# EAGLE library part ISO518 (library digital)
ISO518: Octal digital coupler (Burr-Brown) Bi-directional, isolated
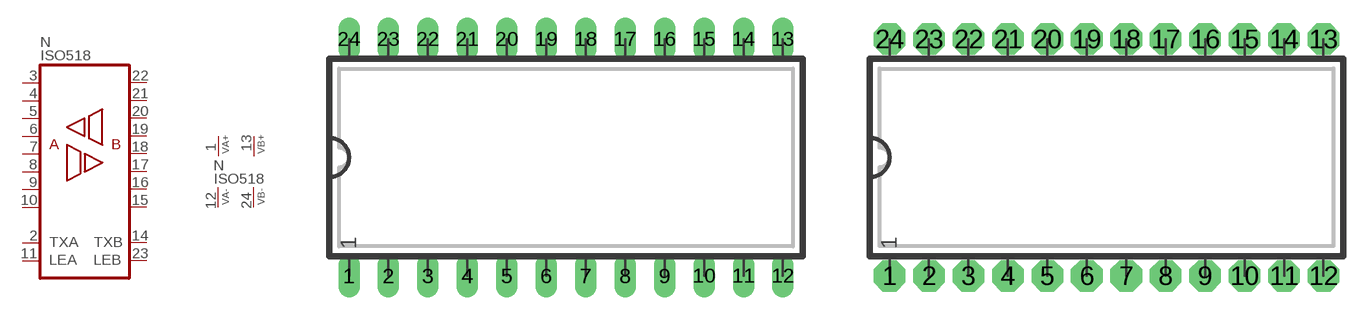
[diagram p34: symbol with the pads of DIP24WL; footprints DIP24WL, DIP24WN]

Designator prefix N; gates  =ISO518 P=V2+2-A

## ISO518  [DIP24WL]
1  P:VA+  pwr
2   :TXA  in
3   :A0
4   :A1
5   :A2
6   :A3
7   :A4
8   :A5
9   :A6
10   :A7
11   :LEA  in
12  P:VA-  pwr
13  P:VB+  pwr
14   :TXB  in
15   :B7
16   :B6
17   :B5
18   :B4
19   :B3
20   :B2
21   :B1
22   :B0
23   :LEB  in
24  P:VB-  pwr

## ISO518L  [DIP24WL]
Pads as for DIP24WL

## ISO518N  [DIP24WN]
Pads as for DIP24WL

## ISO518R  [DIP24WR]
Pads as for DIP24WL

## Footprint DIP24WL (pad centres in mm)
Wide DIP-24, long pads Standard IC package, 24 pins
drill 0.813 pad 1.397 long: 1 0,0; 2 2.54,0; 3 5.08,0; 4 7.62,0; 5 10.16,0; 6 12.7,0; 7 15.24,0; 8 17.78,0; 9 20.32,0; 10 22.86,0; 11 25.4,0; 12 27.94,0; 13 27.94,15.24; 14 25.4,15.24; 15 22.86,15.24; 16 20.32,15.24; 17 17.78,15.24; 18 15.24,15.24; 19 12.7,15.24; 20 10.16,15.24; 21 7.62,15.24; 22 5.08,15.24; 23 2.54,15.24; 24 0,15.24

## Footprint DIP24WN (pad centres in mm)
Wide DIP-24 Standard IC package, 24 pins
drill 0.813 pad 2.032 octagon: 1 0,0; 2 2.54,0; 3 5.08,0; 4 7.62,0; 5 10.16,0; 6 12.7,0; 7 15.24,0; 8 17.78,0; 9 20.32,0; 10 22.86,0; 11 25.4,0; 12 27.94,0; 13 27.94,15.24; 14 25.4,15.24; 15 22.86,15.24; 16 20.32,15.24; 17 17.78,15.24; 18 15.24,15.24; 19 12.7,15.24; 20 10.16,15.24; 21 7.62,15.24; 22 5.08,15.24; 23 2.54,15.24; 24 0,15.24

## Footprint DIP24WR (pad centres in mm)
Wide DIP-24, reduced pads Standard IC package, 24 pins
drill 0.813 pad 1.397 square: 1 0,0; 2 2.54,0; 3 5.08,0; 4 7.62,0; 5 10.16,0; 6 12.7,0; 7 15.24,0; 8 17.78,0; 9 20.32,0; 10 22.86,0; 11 25.4,0; 12 27.94,0; 13 27.94,15.24; 14 25.4,15.24; 15 22.86,15.24; 16 20.32,15.24; 17 17.78,15.24; 18 15.24,15.24; 19 12.7,15.24; 20 10.16,15.24; 21 7.62,15.24; 22 5.08,15.24; 23 2.54,15.24; 24 0,15.24